# Altium schematic symbol library WR-MPC3.SchLib: 235 symbols (part 3 of 5)
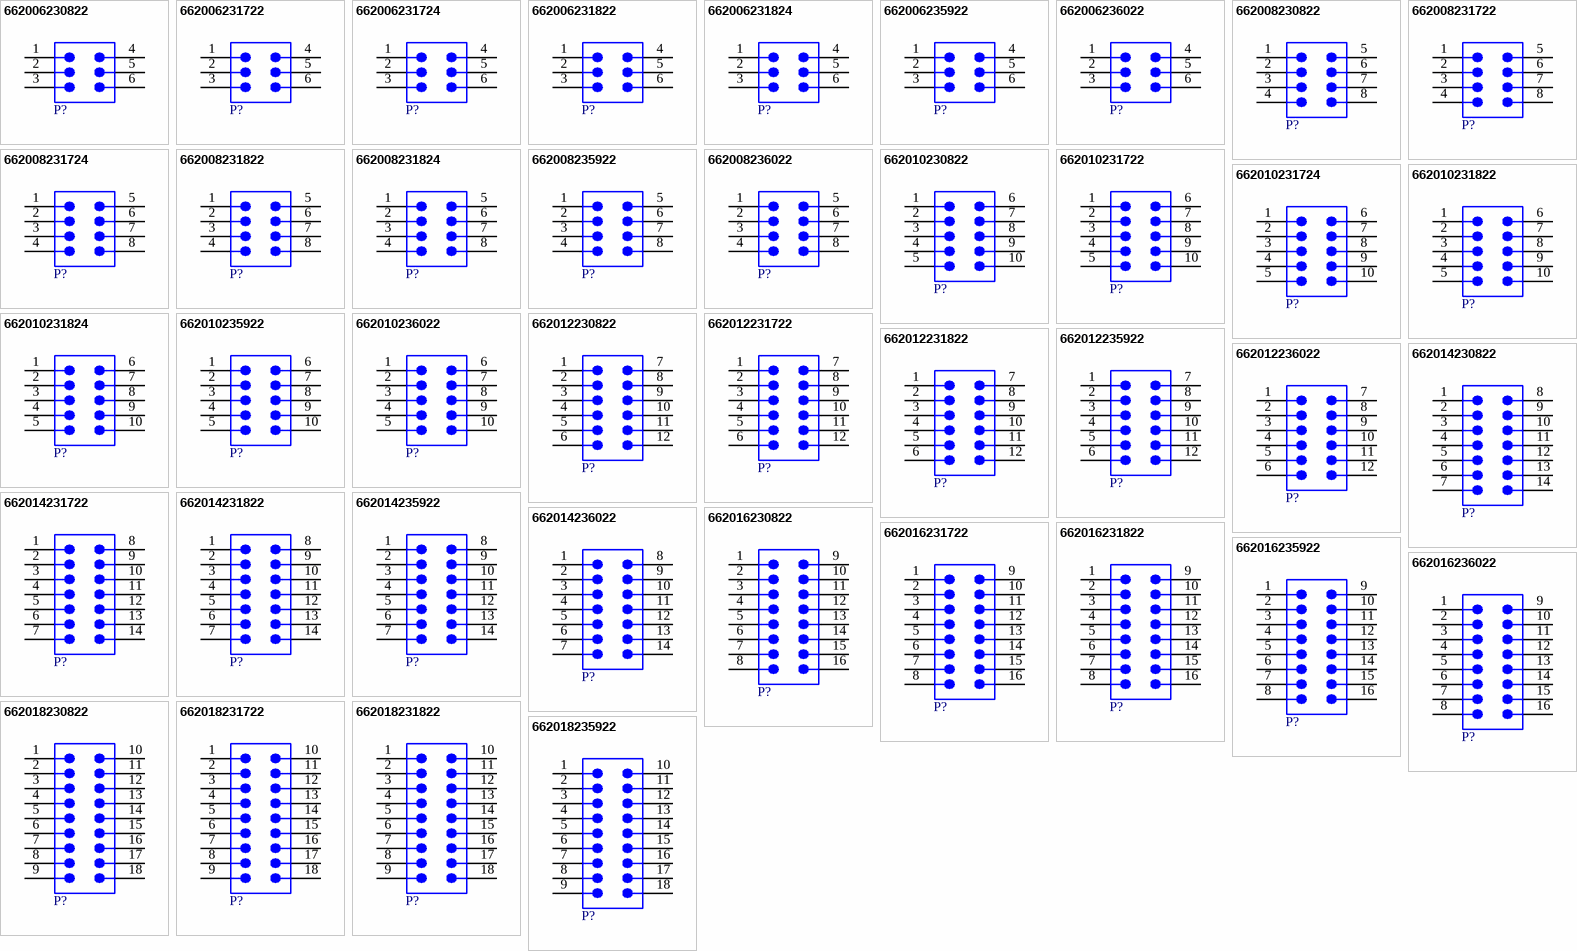
[diagram p7: symbols 662006230822 to 662018235922]

## 662016231722
designator P?  (value not drawn)
WR-MPC3 SMT Male Right Angled Header with SMT Solder Tab, pitch 3mm, 16p; Manufacturer: Wurth Elektronik; Contact Resistance: 10mOhm; Insulation Resistance: >1000MOhm; Rated Current: 5A; Working Voltage: 250V (AC); Manufacturer Part Number: 662016231722; Category: Wire-to-Board Connectors; Match Code: WR-MPC3; ComponentLink1Description: Website Link; ComponentLink1URL: https://www.we-online.com/redexpert/article/662016231722?ad; ComponentLink2Description: Datasheet Link; ComponentLink2URL: https://www.we-online.com/redexpert/spec/662016231722?ad; Mount: Surface Mount; Operating Temperature Max: 105°C; Operating Temperature Min: -40°C; Packaging: Tray; Length: 27.7mm; Width: 9.9mm; Height: 8.76mm; Gender: Male; Number of Pins: 16; Number of Rows: 2; Orientation: Right Angled; Pitch: 3mm
footprint 662016231722
pins: 1, 2, 3, 4, 5, 6, 7, 8, 9, 10, 11, 12, 13, 14, 15, 16

## 662016231822
designator P?  (value not drawn)
WR-MPC3 SMT Male Vertical Header with SMT Solder Tab, pitch 3mm, 16p; Manufacturer: Wurth Elektronik; Contact Resistance: 10mOhm; Insulation Resistance: >1000MOhm; Rated Current: 5A; Working Voltage: 250V (AC); Manufacturer Part Number: 662016231822; Category: Wire-to-Board Connectors; Match Code: WR-MPC3; ComponentLink1Description: Website Link; ComponentLink1URL: https://www.we-online.com/redexpert/article/662016231822?ad; ComponentLink2Description: Datasheet Link; ComponentLink2URL: https://www.we-online.com/redexpert/spec/662016231822?ad; Mount: Surface Mount; Operating Temperature Max: 105°C; Operating Temperature Min: -40°C; Packaging: Tray; Length: 27.7mm; Width: 11.4mm; Height: 9.9mm; Gender: Male; Number of Pins: 16; Number of Rows: 2; Orientation: Vertical; Pitch: 3mm
footprint 662016231822
pins: 1, 2, 3, 4, 5, 6, 7, 8, 9, 10, 11, 12, 13, 14, 15, 16

## 662016235922
designator P?  (value not drawn)
WR-MPC3 SMT Male Vertical Header with THT Retention Clip, pitch 3mm, 16p; Manufacturer: Wurth Elektronik; Contact Resistance: 10mOhm; Insulation Resistance: >1000MOhm; Rated Current: 5A; Working Voltage: 250V (AC); Manufacturer Part Number: 662016235922; Category: Wire-to-Board Connectors; Match Code: WR-MPC3; ComponentLink1Description: Website Link; ComponentLink1URL: https://www.we-online.com/redexpert/article/662016235922?ad; ComponentLink2Description: Datasheet Link; ComponentLink2URL: https://www.we-online.com/redexpert/spec/662016235922?ad; Mount: Surface Mount; Operating Temperature Max: 105°C; Operating Temperature Min: -40°C; Packaging: Tube; Length: 27.7mm; Width: 11.4mm; Height: 9.9mm; Gender: Male; Number of Pins: 16; Number of Rows: 2; Orientation: Vertical; Pitch: 3mm
footprint 662016235922
pins: 1, 2, 3, 4, 5, 6, 7, 8, 9, 10, 11, 12, 13, 14, 15, 16

## 662016236022
designator P?  (value not drawn)
WR-MPC3 SMT Male Right Angled Header with Plastic Pegs, pitch 3mm, 16p; Manufacturer: Wurth Elektronik; Contact Resistance: 10mOhm; Insulation Resistance: >1000MOhm; Rated Current: 5A; Working Voltage: 250V (AC); Manufacturer Part Number: 662016236022; Category: Wire-to-Board Connectors; Match Code: WR-MPC3; ComponentLink1Description: Website Link; ComponentLink1URL: https://www.we-online.com/redexpert/article/662016236022?ad; ComponentLink2Description: Datasheet Link; ComponentLink2URL: https://www.we-online.com/redexpert/spec/662016236022?ad; Mount: Surface Mount; Operating Temperature Max: 105°C; Operating Temperature Min: -40°C; Packaging: Tube; Length: 27.7mm; Width: 9.9mm; Height: 8.76mm; Gender: Male; Number of Pins: 16; Number of Rows: 2; Orientation: Right Angled; Pitch: 3mm
footprint 662016236022
pins: 1, 2, 3, 4, 5, 6, 7, 8, 9, 10, 11, 12, 13, 14, 15, 16

## 662018230822
designator P?  (value not drawn)
WR-MPC3 SMT Male Right Angled Header with THT Retention Clip, pitch 3mm, 18p; Manufacturer: Wurth Elektronik; Contact Resistance: 10mOhm; Insulation Resistance: >1000MOhm; Rated Current: 5A; Working Voltage: 250V (AC); Manufacturer Part Number: 662018230822; Category: Wire-to-Board Connectors; Match Code: WR-MPC3; ComponentLink1Description: Website Link; ComponentLink1URL: https://www.we-online.com/redexpert/article/662018230822?ad; ComponentLink2Description: Datasheet Link; ComponentLink2URL: https://www.we-online.com/redexpert/spec/662018230822?ad; Mount: Surface Mount; Operating Temperature Max: 105°C; Operating Temperature Min: -40°C; Packaging: Tube; Length: 30.7mm; Width: 9.9mm; Height: 8.76mm; Gender: Male; Number of Pins: 18; Number of Rows: 2; Orientation: Right Angled; Pitch: 3mm
footprint 662018230822
pins: 1, 2, 3, 4, 5, 6, 7, 8, 9, 10, 11, 12, 13, 14, 15, 16, 17, 18

## 662018231722
designator P?  (value not drawn)
WR-MPC3 SMT Male Right Angled Header with SMT Solder Tab, pitch 3mm, 18p; Manufacturer: Wurth Elektronik; Contact Resistance: 10mOhm; Insulation Resistance: >1000MOhm; Rated Current: 5A; Working Voltage: 250V (AC); Manufacturer Part Number: 662018231722; Category: Wire-to-Board Connectors; Match Code: WR-MPC3; ComponentLink1Description: Website Link; ComponentLink1URL: https://www.we-online.com/redexpert/article/662018231722?ad; ComponentLink2Description: Datasheet Link; ComponentLink2URL: https://www.we-online.com/redexpert/spec/662018231722?ad; Mount: Surface Mount; Operating Temperature Max: 105°C; Operating Temperature Min: -40°C; Packaging: Tray; Length: 30.7mm; Width: 9.9mm; Height: 8.76mm; Gender: Male; Number of Pins: 18; Number of Rows: 2; Orientation: Right Angled; Pitch: 3mm
footprint 662018231722
pins: 1, 2, 3, 4, 5, 6, 7, 8, 9, 10, 11, 12, 13, 14, 15, 16, 17, 18

## 662018231822
designator P?  (value not drawn)
WR-MPC3 SMT Male Vertical Header with SMT Solder Tab, pitch 3mm, 18p; Manufacturer: Wurth Elektronik; Contact Resistance: 10mOhm; Insulation Resistance: >1000MOhm; Rated Current: 5A; Working Voltage: 250V (AC); Manufacturer Part Number: 662018231822; Category: Wire-to-Board Connectors; Match Code: WR-MPC3; ComponentLink1Description: Website Link; ComponentLink1URL: https://www.we-online.com/redexpert/article/662018231822?ad; ComponentLink2Description: Datasheet Link; ComponentLink2URL: https://www.we-online.com/redexpert/spec/662018231822?ad; Mount: Surface Mount; Operating Temperature Max: 105°C; Operating Temperature Min: -40°C; Packaging: Tray; Length: 30.7mm; Width: 11.4mm; Height: 9.9mm; Gender: Male; Number of Pins: 18; Number of Rows: 2; Orientation: Vertical; Pitch: 3mm
footprint 662018231822
pins: 1, 2, 3, 4, 5, 6, 7, 8, 9, 10, 11, 12, 13, 14, 15, 16, 17, 18

## 662018235922
designator P?  (value not drawn)
WR-MPC3 SMT Male Vertical Header with THT Retention Clip, pitch 3mm, 18p; Manufacturer: Wurth Elektronik; Contact Resistance: 10mOhm; Insulation Resistance: >1000MOhm; Rated Current: 5A; Working Voltage: 250V (AC); Manufacturer Part Number: 662018235922; Category: Wire-to-Board Connectors; Match Code: WR-MPC3; ComponentLink1Description: Website Link; ComponentLink1URL: https://www.we-online.com/redexpert/article/662018235922?ad; ComponentLink2Description: Datasheet Link; ComponentLink2URL: https://www.we-online.com/redexpert/spec/662018235922?ad; Mount: Surface Mount; Operating Temperature Max: 105°C; Operating Temperature Min: -40°C; Packaging: Tube; Length: 30.7mm; Width: 11.4mm; Height: 9.9mm; Gender: Male; Number of Pins: 18; Number of Rows: 2; Orientation: Vertical; Pitch: 3mm
footprint 662018235922
pins: 1, 2, 3, 4, 5, 6, 7, 8, 9, 10, 11, 12, 13, 14, 15, 16, 17, 18

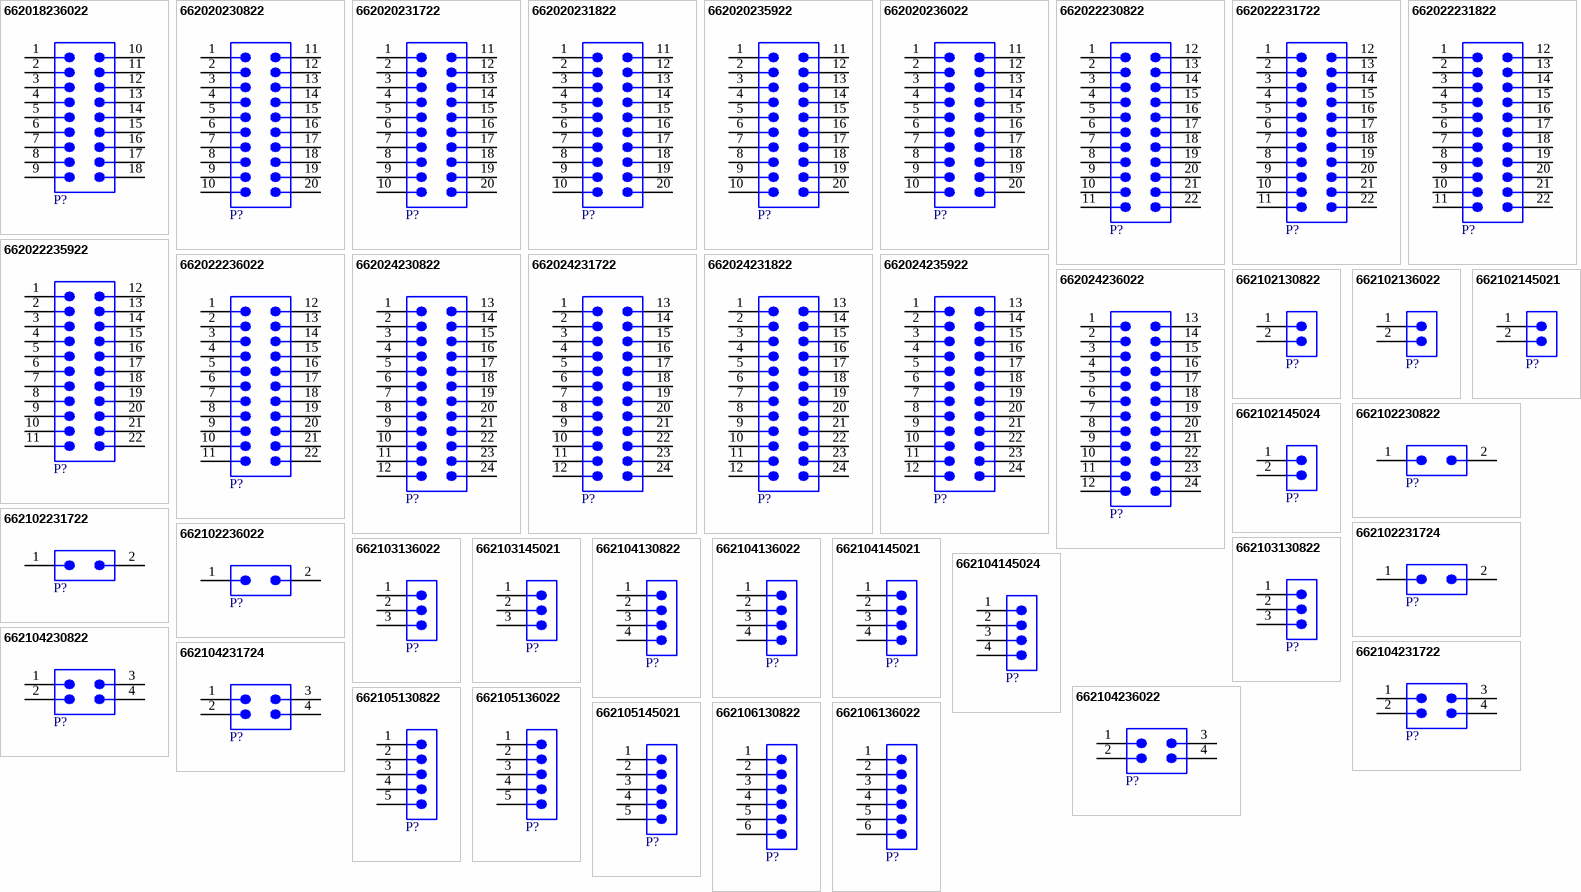
[diagram p3: symbols 662018236022 to 662106136022]

## 662018236022
designator P?  (value not drawn)
WR-MPC3 SMT Male Right Angled Header with Plastic Pegs, pitch 3mm, 18p; Manufacturer: Wurth Elektronik; Contact Resistance: 10mOhm; Insulation Resistance: >1000MOhm; Rated Current: 5A; Working Voltage: 250V (AC); Manufacturer Part Number: 662018236022; Category: Wire-to-Board Connectors; Match Code: WR-MPC3; ComponentLink1Description: Website Link; ComponentLink1URL: https://www.we-online.com/redexpert/article/662018236022?ad; ComponentLink2Description: Datasheet Link; ComponentLink2URL: https://www.we-online.com/redexpert/spec/662018236022?ad; Mount: Surface Mount; Operating Temperature Max: 105°C; Operating Temperature Min: -40°C; Packaging: Tube; Length: 30.7mm; Width: 9.9mm; Height: 8.76mm; Gender: Male; Number of Pins: 18; Number of Rows: 2; Orientation: Right Angled; Pitch: 3mm
footprint 662018236022
pins: 1, 2, 3, 4, 5, 6, 7, 8, 9, 10, 11, 12, 13, 14, 15, 16, 17, 18

## 662020230822
designator P?  (value not drawn)
WR-MPC3 SMT Male Right Angled Header with THT Retention Clip, pitch 3mm, 20p; Manufacturer: Wurth Elektronik; Contact Resistance: 10mOhm; Insulation Resistance: >1000MOhm; Rated Current: 5A; Working Voltage: 250V (AC); Manufacturer Part Number: 662020230822; Category: Wire-to-Board Connectors; Match Code: WR-MPC3; ComponentLink1Description: Website Link; ComponentLink1URL: https://www.we-online.com/redexpert/article/662020230822?ad; ComponentLink2Description: Datasheet Link; ComponentLink2URL: https://www.we-online.com/redexpert/spec/662020230822?ad; Mount: Surface Mount; Operating Temperature Max: 105°C; Operating Temperature Min: -40°C; Packaging: Tube; Length: 33.7mm; Width: 9.9mm; Height: 8.76mm; Gender: Male; Number of Pins: 20; Number of Rows: 2; Orientation: Right Angled; Pitch: 3mm
footprint 662020230822
pins: 1, 2, 3, 4, 5, 6, 7, 8, 9, 10, 11, 12, 13, 14, 15, 16, 17, 18, 19, 20

## 662020231722
designator P?  (value not drawn)
WR-MPC3 SMT Male Right Angled Header with SMT Solder Tab, pitch 3mm, 20p; Manufacturer: Wurth Elektronik; Contact Resistance: 10mOhm; Insulation Resistance: >1000MOhm; Rated Current: 5A; Working Voltage: 250V (AC); Manufacturer Part Number: 662020231722; Category: Wire-to-Board Connectors; Match Code: WR-MPC3; ComponentLink1Description: Website Link; ComponentLink1URL: https://www.we-online.com/redexpert/article/662020231722?ad; ComponentLink2Description: Datasheet Link; ComponentLink2URL: https://www.we-online.com/redexpert/spec/662020231722?ad; Mount: Surface Mount; Operating Temperature Max: 105°C; Operating Temperature Min: -40°C; Packaging: Tray; Length: 33.7mm; Width: 9.9mm; Height: 8.76mm; Gender: Male; Number of Pins: 20; Number of Rows: 2; Orientation: Right Angled; Pitch: 3mm
footprint 662020231722
pins: 1, 2, 3, 4, 5, 6, 7, 8, 9, 10, 11, 12, 13, 14, 15, 16, 17, 18, 19, 20

## 662020231822
designator P?  (value not drawn)
WR-MPC3 SMT Male Vertical Header with SMT Solder Tab, pitch 3mm, 20p; Manufacturer: Wurth Elektronik; Contact Resistance: 10mOhm; Insulation Resistance: >1000MOhm; Rated Current: 5A; Working Voltage: 250V (AC); Manufacturer Part Number: 662020231822; Category: Wire-to-Board Connectors; Match Code: WR-MPC3; ComponentLink1Description: Website Link; ComponentLink1URL: https://www.we-online.com/redexpert/article/662020231822?ad; ComponentLink2Description: Datasheet Link; ComponentLink2URL: https://www.we-online.com/redexpert/spec/662020231822?ad; Mount: Surface Mount; Operating Temperature Max: 105°C; Operating Temperature Min: -40°C; Packaging: Tray; Length: 33.7mm; Width: 11.4mm; Height: 9.9mm; Gender: Male; Number of Pins: 20; Number of Rows: 2; Orientation: Vertical; Pitch: 3mm
footprint 662020231822
pins: 1, 2, 3, 4, 5, 6, 7, 8, 9, 10, 11, 12, 13, 14, 15, 16, 17, 18, 19, 20

## 662020235922
designator P?  (value not drawn)
WR-MPC3 SMT Male Vertical Header with THT Retention Clip, pitch 3mm, 20p; Manufacturer: Wurth Elektronik; Contact Resistance: 10mOhm; Insulation Resistance: >1000MOhm; Rated Current: 5A; Working Voltage: 250V (AC); Manufacturer Part Number: 662020235922; Category: Wire-to-Board Connectors; Match Code: WR-MPC3; ComponentLink1Description: Website Link; ComponentLink1URL: https://www.we-online.com/redexpert/article/662020235922?ad; ComponentLink2Description: Datasheet Link; ComponentLink2URL: https://www.we-online.com/redexpert/spec/662020235922?ad; Mount: Surface Mount; Operating Temperature Max: 105°C; Operating Temperature Min: -40°C; Packaging: Tube; Length: 33.7mm; Width: 11.4mm; Height: 9.9mm; Gender: Male; Number of Pins: 20; Number of Rows: 2; Orientation: Vertical; Pitch: 3mm
footprint 662020235922
pins: 1, 2, 3, 4, 5, 6, 7, 8, 9, 10, 11, 12, 13, 14, 15, 16, 17, 18, 19, 20

## 662020236022
designator P?  (value not drawn)
WR-MPC3 SMT Male Right Angled Header with Plastic Pegs, pitch 3mm, 20p; Manufacturer: Wurth Elektronik; Contact Resistance: 10mOhm; Insulation Resistance: >1000MOhm; Rated Current: 5A; Working Voltage: 250V (AC); Manufacturer Part Number: 662020236022; Category: Wire-to-Board Connectors; Match Code: WR-MPC3; ComponentLink1Description: Website Link; ComponentLink1URL: https://www.we-online.com/redexpert/article/662020236022?ad; ComponentLink2Description: Datasheet Link; ComponentLink2URL: https://www.we-online.com/redexpert/spec/662020236022?ad; Mount: Surface Mount; Operating Temperature Max: 105°C; Operating Temperature Min: -40°C; Packaging: Tube; Length: 33.7mm; Width: 9.9mm; Height: 8.76mm; Gender: Male; Number of Pins: 20; Number of Rows: 2; Orientation: Right Angled; Pitch: 3mm
footprint 662020236022
pins: 1, 2, 3, 4, 5, 6, 7, 8, 9, 10, 11, 12, 13, 14, 15, 16, 17, 18, 19, 20

## 662022230822
designator P?  (value not drawn)
WR-MPC3 SMT Male Right Angled Header with THT Retention Clip, pitch 3mm, 22p; Manufacturer: Wurth Elektronik; Contact Resistance: 10mOhm; Insulation Resistance: >1000MOhm; Rated Current: 5A; Working Voltage: 250V (AC); Manufacturer Part Number: 662022230822; Category: Wire-to-Board Connectors; Match Code: WR-MPC3; ComponentLink1Description: Website Link; ComponentLink1URL: https://www.we-online.com/redexpert/article/662022230822?ad; ComponentLink2Description: Datasheet Link; ComponentLink2URL: https://www.we-online.com/redexpert/spec/662022230822?ad; Mount: Surface Mount; Operating Temperature Max: 105°C; Operating Temperature Min: -40°C; Packaging: Tube; Length: 36.7mm; Width: 9.9mm; Height: 8.76mm; Gender: Male; Number of Pins: 22; Number of Rows: 2; Orientation: Right Angled; Pitch: 3mm
footprint 662022230822
pins: 1, 2, 3, 4, 5, 6, 7, 8, 9, 10, 11, 12, 13, 14, 15, 16, 17, 18, 19, 20, 21, 22

## 662022231722
designator P?  (value not drawn)
WR-MPC3 SMT Male Right Angled Header with SMT Solder Tab, pitch 3mm, 22p; Manufacturer: Wurth Elektronik; Contact Resistance: 10mOhm; Insulation Resistance: >1000MOhm; Rated Current: 5A; Working Voltage: 250V (AC); Manufacturer Part Number: 662022231722; Category: Wire-to-Board Connectors; Match Code: WR-MPC3; ComponentLink1Description: Website Link; ComponentLink1URL: https://www.we-online.com/redexpert/article/662022231722?ad; ComponentLink2Description: Datasheet Link; ComponentLink2URL: https://www.we-online.com/redexpert/spec/662022231722?ad; Mount: Surface Mount; Operating Temperature Max: 105°C; Operating Temperature Min: -40°C; Packaging: Tray; Length: 36.7mm; Width: 9.9mm; Height: 8.76mm; Gender: Male; Number of Pins: 22; Number of Rows: 2; Orientation: Right Angled; Pitch: 3mm
footprint 662022231722
pins: 1, 2, 3, 4, 5, 6, 7, 8, 9, 10, 11, 12, 13, 14, 15, 16, 17, 18, 19, 20, 21, 22

## 662022231822
designator P?  (value not drawn)
WR-MPC3 SMT Male Vertical Header with SMT Solder Tab, pitch 3mm, 22p; Manufacturer: Wurth Elektronik; Contact Resistance: 10mOhm; Insulation Resistance: >1000MOhm; Rated Current: 5A; Working Voltage: 250V (AC); Manufacturer Part Number: 662022231822; Category: Wire-to-Board Connectors; Match Code: WR-MPC3; ComponentLink1Description: Website Link; ComponentLink1URL: https://www.we-online.com/redexpert/article/662022231822?ad; ComponentLink2Description: Datasheet Link; ComponentLink2URL: https://www.we-online.com/redexpert/spec/662022231822?ad; Mount: Surface Mount; Operating Temperature Max: 105°C; Operating Temperature Min: -40°C; Packaging: Tray; Length: 36.7mm; Width: 11.4mm; Height: 9.9mm; Gender: Male; Number of Pins: 22; Number of Rows: 2; Orientation: Vertical; Pitch: 3mm
footprint 662022231822
pins: 1, 2, 3, 4, 5, 6, 7, 8, 9, 10, 11, 12, 13, 14, 15, 16, 17, 18, 19, 20, 21, 22

## 662022235922
designator P?  (value not drawn)
WR-MPC3 SMT Male Vertical Header with THT Retention Clip, pitch 3mm, 22p; Manufacturer: Wurth Elektronik; Contact Resistance: 10mOhm; Insulation Resistance: >1000MOhm; Rated Current: 5A; Working Voltage: 250V (AC); Manufacturer Part Number: 662022235922; Category: Wire-to-Board Connectors; Match Code: WR-MPC3; ComponentLink1Description: Website Link; ComponentLink1URL: https://www.we-online.com/redexpert/article/662022235922?ad; ComponentLink2Description: Datasheet Link; ComponentLink2URL: https://www.we-online.com/redexpert/spec/662022235922?ad; Mount: Surface Mount; Operating Temperature Max: 105°C; Operating Temperature Min: -40°C; Packaging: Tube; Length: 36.7mm; Width: 11.4mm; Height: 9.9mm; Gender: Male; Number of Pins: 22; Number of Rows: 2; Orientation: Vertical; Pitch: 3mm
footprint 662022235922
pins: 1, 2, 3, 4, 5, 6, 7, 8, 9, 10, 11, 12, 13, 14, 15, 16, 17, 18, 19, 20, 21, 22

## 662022236022
designator P?  (value not drawn)
WR-MPC3 SMT Male Right Angled Header with Plastic Pegs, pitch 3mm, 22p; Manufacturer: Wurth Elektronik; Contact Resistance: 10mOhm; Insulation Resistance: >1000MOhm; Rated Current: 5A; Working Voltage: 250V (AC); Manufacturer Part Number: 662022236022; Category: Wire-to-Board Connectors; Match Code: WR-MPC3; ComponentLink1Description: Website Link; ComponentLink1URL: https://www.we-online.com/redexpert/article/662022236022?ad; ComponentLink2Description: Datasheet Link; ComponentLink2URL: https://www.we-online.com/redexpert/spec/662022236022?ad; Mount: Surface Mount; Operating Temperature Max: 105°C; Operating Temperature Min: -40°C; Packaging: Tube; Length: 36.7mm; Width: 9.9mm; Height: 8.76mm; Gender: Male; Number of Pins: 22; Number of Rows: 2; Orientation: Right Angled; Pitch: 3mm
footprint 662022236022
pins: 1, 2, 3, 4, 5, 6, 7, 8, 9, 10, 11, 12, 13, 14, 15, 16, 17, 18, 19, 20, 21, 22

## 662024230822
designator P?  (value not drawn)
WR-MPC3 SMT Male Right Angled Header with THT Retention Clip, pitch 3mm, 24p; Manufacturer: Wurth Elektronik; Contact Resistance: 10mOhm; Insulation Resistance: >1000MOhm; Rated Current: 5A; Working Voltage: 250V (AC); Manufacturer Part Number: 662024230822; Category: Wire-to-Board Connectors; Match Code: WR-MPC3; ComponentLink1Description: Website Link; ComponentLink1URL: https://www.we-online.com/redexpert/article/662024230822?ad; ComponentLink2Description: Datasheet Link; ComponentLink2URL: https://www.we-online.com/redexpert/spec/662024230822?ad; Mount: Surface Mount; Operating Temperature Max: 105°C; Operating Temperature Min: -40°C; Packaging: Tube; Length: 39.7mm; Width: 9.9mm; Height: 8.76mm; Gender: Male; Number of Pins: 24; Number of Rows: 2; Orientation: Right Angled; Pitch: 3mm
footprint 662024230822
pins: 1, 2, 3, 4, 5, 6, 7, 8, 9, 10, 11, 12, 13, 14, 15, 16, 17, 18, 19, 20, 21, 22, 23, 24

## 662024231722
designator P?  (value not drawn)
WR-MPC3 SMT Male Right Angled Header with SMT Solder Tab, pitch 3mm, 24p; Manufacturer: Wurth Elektronik; Contact Resistance: 10mOhm; Insulation Resistance: >1000MOhm; Rated Current: 5A; Working Voltage: 250V (AC); Manufacturer Part Number: 662024231722; Category: Wire-to-Board Connectors; Match Code: WR-MPC3; ComponentLink1Description: Website Link; ComponentLink1URL: https://www.we-online.com/redexpert/article/662024231722?ad; ComponentLink2Description: Datasheet Link; ComponentLink2URL: https://www.we-online.com/redexpert/spec/662024231722?ad; Mount: Surface Mount; Operating Temperature Max: 105°C; Operating Temperature Min: -40°C; Packaging: Tray; Length: 39.7mm; Width: 9.9mm; Height: 8.76mm; Gender: Male; Number of Pins: 24; Number of Rows: 2; Orientation: Right Angled; Pitch: 3mm
footprint 662024231722
pins: 1, 2, 3, 4, 5, 6, 7, 8, 9, 10, 11, 12, 13, 14, 15, 16, 17, 18, 19, 20, 21, 22, 23, 24

## 662024231822
designator P?  (value not drawn)
WR-MPC3 SMT Male Vertical Header with SMT Solder Tab, pitch 3mm, 24p; Manufacturer: Wurth Elektronik; Contact Resistance: 10mOhm; Insulation Resistance: >1000MOhm; Rated Current: 5A; Working Voltage: 250V (AC); Manufacturer Part Number: 662024231822; Category: Wire-to-Board Connectors; Match Code: WR-MPC3; ComponentLink1Description: Website Link; ComponentLink1URL: https://www.we-online.com/redexpert/article/662024231822?ad; ComponentLink2Description: Datasheet Link; ComponentLink2URL: https://www.we-online.com/redexpert/spec/662024231822?ad; Mount: Surface Mount; Operating Temperature Max: 105°C; Operating Temperature Min: -40°C; Packaging: Tray; Length: 39.7mm; Width: 11.4mm; Height: 9.9mm; Gender: Male; Number of Pins: 24; Number of Rows: 2; Orientation: Vertical; Pitch: 3mm
footprint 662024231822
pins: 1, 2, 3, 4, 5, 6, 7, 8, 9, 10, 11, 12, 13, 14, 15, 16, 17, 18, 19, 20, 21, 22, 23, 24

## 662024235922
designator P?  (value not drawn)
WR-MPC3 SMT Male Vertical Header with THT Retention Clip, pitch 3mm, 24p; Manufacturer: Wurth Elektronik; Contact Resistance: 10mOhm; Insulation Resistance: >1000MOhm; Rated Current: 5A; Working Voltage: 250V (AC); Manufacturer Part Number: 662024235922; Category: Wire-to-Board Connectors; Match Code: WR-MPC3; ComponentLink1Description: Website Link; ComponentLink1URL: https://www.we-online.com/redexpert/article/662024235922?ad; ComponentLink2Description: Datasheet Link; ComponentLink2URL: https://www.we-online.com/redexpert/spec/662024235922?ad; Mount: Surface Mount; Operating Temperature Max: 105°C; Operating Temperature Min: -40°C; Packaging: Tube; Length: 39.7mm; Width: 11.4mm; Height: 9.9mm; Gender: Male; Number of Pins: 24; Number of Rows: 2; Orientation: Vertical; Pitch: 3mm
footprint 662024235922
pins: 1, 2, 3, 4, 5, 6, 7, 8, 9, 10, 11, 12, 13, 14, 15, 16, 17, 18, 19, 20, 21, 22, 23, 24

## 662024236022
designator P?  (value not drawn)
WR-MPC3 SMT Male Right Angled Header with Plastic Pegs, pitch 3mm, 24p; Manufacturer: Wurth Elektronik; Contact Resistance: 10mOhm; Insulation Resistance: >1000MOhm; Rated Current: 5A; Working Voltage: 250V (AC); Manufacturer Part Number: 662024236022; Category: Wire-to-Board Connectors; Match Code: WR-MPC3; ComponentLink1Description: Website Link; ComponentLink1URL: https://www.we-online.com/redexpert/article/662024236022?ad; ComponentLink2Description: Datasheet Link; ComponentLink2URL: https://www.we-online.com/redexpert/spec/662024236022?ad; Mount: Surface Mount; Operating Temperature Max: 105°C; Operating Temperature Min: -40°C; Packaging: Tube; Length: 39.7mm; Width: 9.9mm; Height: 8.76mm; Gender: Male; Number of Pins: 24; Number of Rows: 2; Orientation: Right Angled; Pitch: 3mm
footprint 662024236022
pins: 1, 2, 3, 4, 5, 6, 7, 8, 9, 10, 11, 12, 13, 14, 15, 16, 17, 18, 19, 20, 21, 22, 23, 24

## 662102130822
designator P?  (value not drawn)
WR-MPC3 SMT Male Right Angled Header with THT Retention Clip, pitch 3mm, 2p; Manufacturer: Wurth Elektronik; Contact Resistance: 10mOhm; Insulation Resistance: >1000MOhm; Rated Current: 5A; Working Voltage: 250V (AC); Manufacturer Part Number: 662102130822; Category: Wire-to-Board Connectors; Match Code: WR-MPC3; ComponentLink1Description: Website Link; ComponentLink1URL: https://www.we-online.com/redexpert/article/662102130822?ad; ComponentLink2Description: Datasheet Link; ComponentLink2URL: https://www.we-online.com/redexpert/spec/662102130822?ad; Mount: Surface Mount; Operating Temperature Max: 105°C; Operating Temperature Min: -40°C; Packaging: Tape and Reel; Length: 9.65mm; Width: 11.35mm; Height: 5.57mm; Gender: Male; Number of Pins: 2; Number of Rows: 1; Orientation: Right Angled; Pitch: 3mm
footprint 662102130822
pins: 1, 2

## 662102136022
designator P?  (value not drawn)
WR-MPC3 SMT Male Right Angled Header with Snap-In Plastic Pegs, pitch 3mm, 2p; Manufacturer: Wurth Elektronik; Contact Resistance: 10mOhm; Insulation Resistance: >1000MOhm; Rated Current: 5A; Working Voltage: 250V (AC); Manufacturer Part Number: 662102136022; Category: Wire-to-Board Connectors; Match Code: WR-MPC3; ComponentLink1Description: Website Link; ComponentLink1URL: https://www.we-online.com/redexpert/article/662102136022?ad; ComponentLink2Description: Datasheet Link; ComponentLink2URL: https://www.we-online.com/redexpert/spec/662102136022?ad; Mount: Surface Mount; Operating Temperature Max: 105°C; Operating Temperature Min: -40°C; Packaging: Tape and Reel; Length: 9.65mm; Width: 11.35mm; Height: 5.57mm; Gender: Male; Number of Pins: 2; Number of Rows: 1; Orientation: Right Angled; Pitch: 3mm
footprint 662102136022
pins: 1, 2

## 662102145021
designator P?  (value not drawn)
WR-MPC3 SMT Male Right Angled Header with SMT Solder Tabs, pitch 3mm, 2p; Manufacturer: Wurth Elektronik; Contact Resistance: 10mOhm; Insulation Resistance: >1000MOhm; Rated Current: 5A; Working Voltage: 250V (AC); Manufacturer Part Number: 662102145021; Category: Wire-to-Board Connectors; Match Code: WR-MPC3; ComponentLink1Description: Website Link; ComponentLink1URL: https://www.we-online.com/redexpert/article/662102145021?ad; ComponentLink2Description: Datasheet Link; ComponentLink2URL: https://www.we-online.com/redexpert/spec/662102145021?ad; Mount: Surface Mount; Operating Temperature Max: 105°C; Operating Temperature Min: -40°C; Packaging: Tape and Reel; Length: 9.65mm; Width: 11.35mm; Height: 5.57mm; Gender: Male; Number of Pins: 2; Number of Rows: 1; Orientation: Right Angled; Pitch: 3mm
footprint 662102145021
pins: 1, 2

## 662102145024
designator P?  (value not drawn)
WR-MPC3 SMT Male Header Single Row Right Angled with SMT Solder Tabs (Selective Gold), pitch 3mm, 2p; Manufacturer: Wurth Elektronik; Contact Resistance: 10mOhm; Insulation Resistance: >1000MOhm; Rated Current: 5A; Working Voltage: 250V (AC); Manufacturer Part Number: 662102145024; Category: Wire-to-Board Connectors; Match Code: WR-MPC3; ComponentLink1Description: Website Link; ComponentLink1URL: https://www.we-online.com/redexpert/article/662102145024?ad; ComponentLink2Description: Datasheet Link; ComponentLink2URL: https://www.we-online.com/redexpert/spec/662102145024?ad; Mount: Surface Mount; Operating Temperature Max: 105°C; Operating Temperature Min: -40°C; Packaging: Tape and Reel; Gender: Male; Number of Pins: 2; Number of Rows: 1; Orientation: Right Angled; Pitch: 3mm
footprint 662102145024
pins: 1, 2

## 662102230822
designator P?  (value not drawn)
WR-MPC3 SMT Male Right Angled Header with THT Retention Clip, pitch 3mm, 2p; Manufacturer: Wurth Elektronik; Contact Resistance: 10mOhm; Insulation Resistance: >1000MOhm; Rated Current: 5A; Working Voltage: 250V (AC); Manufacturer Part Number: 662102230822; Category: Wire-to-Board Connectors; Match Code: WR-MPC3; ComponentLink1Description: Website Link; ComponentLink1URL: https://www.we-online.com/redexpert/article/662102230822?ad; ComponentLink2Description: Datasheet Link; ComponentLink2URL: https://www.we-online.com/redexpert/spec/662102230822?ad; Mount: Surface Mount; Operating Temperature Max: 105°C; Operating Temperature Min: -40°C; Packaging: Tape and Reel; Length: 6.7mm; Width: 15.9mm; Height: 8.76mm; Gender: Male; Number of Pins: 2; Number of Rows: 2; Orientation: Right Angled; Pitch: 3mm
footprint 662102230822
pins: 1, 2

## 662102231722
designator P?  (value not drawn)
WR-MPC3 SMT Male Right Angled Header with SMT Solder Tab, pitch 3mm, 2p; Manufacturer: Wurth Elektronik; Contact Resistance: 10mOhm; Insulation Resistance: >1000MOhm; Rated Current: 5A; Working Voltage: 250V (AC); Manufacturer Part Number: 662102231722; Category: Wire-to-Board Connectors; Match Code: WR-MPC3; ComponentLink1Description: Website Link; ComponentLink1URL: https://www.we-online.com/redexpert/article/662102231722?ad; ComponentLink2Description: Datasheet Link; ComponentLink2URL: https://www.we-online.com/redexpert/spec/662102231722?ad; Mount: Surface Mount; Operating Temperature Max: 105°C; Operating Temperature Min: -40°C; Packaging: Tape and Reel; Length: 6.7mm; Width: 9.9mm; Height: 8.76mm; Gender: Male; Number of Pins: 2; Number of Rows: 2; Orientation: Right Angled; Pitch: 3mm
footprint 662102231722
pins: 1, 2

## 662102231724
designator P?  (value not drawn)
WR-MPC3 SMT Male Header Dual Row Right Angled with SMT Solder Tabs (Selective Gold), pitch 3mm, 2p; Manufacturer: Wurth Elektronik; Contact Resistance: 10mOhm; Insulation Resistance: >1000MOhm; Rated Current: 5A; Working Voltage: 250V (AC); Manufacturer Part Number: 662102231724; Category: Wire-to-Board Connectors; Match Code: WR-MPC3; ComponentLink1Description: Website Link; ComponentLink1URL: https://www.we-online.com/redexpert/article/662102231724?ad; ComponentLink2Description: Datasheet Link; ComponentLink2URL: https://www.we-online.com/redexpert/spec/662102231724?ad; Mount: Surface Mount; Operating Temperature Max: 105°C; Operating Temperature Min: -40°C; Packaging: Tape and Reel; Gender: Male; Number of Pins: 2; Number of Rows: 2; Orientation: Right Angled; Pitch: 3mm
footprint 662102231724
pins: 1, 2

## 662102236022
designator P?  (value not drawn)
WR-MPC3 SMT Male Right Angled Header with Plastic Pegs, pitch 3mm, 2p; Manufacturer: Wurth Elektronik; Contact Resistance: 10mOhm; Insulation Resistance: >1000MOhm; Rated Current: 5A; Working Voltage: 250V (AC); Manufacturer Part Number: 662102236022; Category: Wire-to-Board Connectors; Match Code: WR-MPC3; ComponentLink1Description: Website Link; ComponentLink1URL: https://www.we-online.com/redexpert/article/662102236022?ad; ComponentLink2Description: Datasheet Link; ComponentLink2URL: https://www.we-online.com/redexpert/spec/662102236022?ad; Mount: Surface Mount; Operating Temperature Max: 105°C; Operating Temperature Min: -40°C; Packaging: Tape and Reel; Length: 6.7mm; Width: 9.9mm; Height: 8.76mm; Gender: Male; Number of Pins: 2; Number of Rows: 2; Orientation: Right Angled; Pitch: 3mm
footprint 662102236022
pins: 1, 2

## 662103130822
designator P?  (value not drawn)
WR-MPC3 SMT Male Right Angled Header with THT Retention Clip, pitch 3mm, 3p; Manufacturer: Wurth Elektronik; Contact Resistance: 10mOhm; Insulation Resistance: >1000MOhm; Rated Current: 5A; Working Voltage: 250V (AC); Manufacturer Part Number: 662103130822; Category: Wire-to-Board Connectors; Match Code: WR-MPC3; ComponentLink1Description: Website Link; ComponentLink1URL: https://www.we-online.com/redexpert/article/662103130822?ad; ComponentLink2Description: Datasheet Link; ComponentLink2URL: https://www.we-online.com/redexpert/spec/662103130822?ad; Mount: Surface Mount; Operating Temperature Max: 105°C; Operating Temperature Min: -40°C; Packaging: Tape and Reel; Length: 12.65mm; Width: 11.35mm; Height: 5.57mm; Gender: Male; Number of Pins: 3; Number of Rows: 1; Orientation: Right Angled; Pitch: 3mm
footprint 662103130822
pins: 1, 2, 3

## 662103136022
designator P?  (value not drawn)
WR-MPC3 SMT Male Right Angled Header with Snap-In Plastic Pegs, pitch 3mm, 3p; Manufacturer: Wurth Elektronik; Contact Resistance: 10mOhm; Insulation Resistance: >1000MOhm; Rated Current: 5A; Working Voltage: 250V (AC); Manufacturer Part Number: 662103136022; Category: Wire-to-Board Connectors; Match Code: WR-MPC3; ComponentLink1Description: Website Link; ComponentLink1URL: https://www.we-online.com/redexpert/article/662103136022?ad; ComponentLink2Description: Datasheet Link; ComponentLink2URL: https://www.we-online.com/redexpert/spec/662103136022?ad; Mount: Surface Mount; Operating Temperature Max: 105°C; Operating Temperature Min: -40°C; Packaging: Tape and Reel; Length: 12.65mm; Width: 11.35mm; Height: 5.57mm; Gender: Male; Number of Pins: 3; Number of Rows: 1; Orientation: Right Angled; Pitch: 3mm
footprint 662103136022
pins: 1, 2, 3

## 662103145021
designator P?  (value not drawn)
WR-MPC3 SMT Male Right Angled Header with SMT Solder Tabs, pitch 3mm, 3p; Manufacturer: Wurth Elektronik; Contact Resistance: 10mOhm; Insulation Resistance: >1000MOhm; Rated Current: 5A; Working Voltage: 250V (AC); Manufacturer Part Number: 662103145021; Category: Wire-to-Board Connectors; Match Code: WR-MPC3; ComponentLink1Description: Website Link; ComponentLink1URL: https://www.we-online.com/redexpert/article/662103145021?ad; ComponentLink2Description: Datasheet Link; ComponentLink2URL: https://www.we-online.com/redexpert/spec/662103145021?ad; Mount: Surface Mount; Operating Temperature Max: 105°C; Operating Temperature Min: -40°C; Packaging: Tape and Reel; Length: 12.65mm; Width: 11.35mm; Height: 5.57mm; Gender: Male; Number of Pins: 3; Number of Rows: 1; Orientation: Right Angled; Pitch: 3mm
footprint 662103145021
pins: 1, 2, 3

## 662104130822
designator P?  (value not drawn)
WR-MPC3 SMT Male Right Angled Header with THT Retention Clip, pitch 3mm, 4p; Manufacturer: Wurth Elektronik; Contact Resistance: 10mOhm; Insulation Resistance: >1000MOhm; Rated Current: 5A; Working Voltage: 250V (AC); Manufacturer Part Number: 662104130822; Category: Wire-to-Board Connectors; Match Code: WR-MPC3; ComponentLink1Description: Website Link; ComponentLink1URL: https://www.we-online.com/redexpert/article/662104130822?ad; ComponentLink2Description: Datasheet Link; ComponentLink2URL: https://www.we-online.com/redexpert/spec/662104130822?ad; Mount: Surface Mount; Operating Temperature Max: 105°C; Operating Temperature Min: -40°C; Packaging: Tape and Reel; Length: 15.65mm; Width: 11.35mm; Height: 5.57mm; Gender: Male; Number of Pins: 4; Number of Rows: 1; Orientation: Right Angled; Pitch: 3mm
footprint 662104130822
pins: 1, 2, 3, 4

## 662104136022
designator P?  (value not drawn)
WR-MPC3 SMT Male Right Angled Header with Snap-In Plastic Pegs, pitch 3mm, 4p; Manufacturer: Wurth Elektronik; Contact Resistance: 10mOhm; Insulation Resistance: >1000MOhm; Rated Current: 5A; Working Voltage: 250V (AC); Manufacturer Part Number: 662104136022; Category: Wire-to-Board Connectors; Match Code: WR-MPC3; ComponentLink1Description: Website Link; ComponentLink1URL: https://www.we-online.com/redexpert/article/662104136022?ad; ComponentLink2Description: Datasheet Link; ComponentLink2URL: https://www.we-online.com/redexpert/spec/662104136022?ad; Mount: Surface Mount; Operating Temperature Max: 105°C; Operating Temperature Min: -40°C; Packaging: Tape and Reel; Length: 15.65mm; Width: 11.35mm; Height: 5.57mm; Gender: Male; Number of Pins: 4; Number of Rows: 1; Orientation: Right Angled; Pitch: 3mm
footprint 662104136022
pins: 1, 2, 3, 4

## 662104145021
designator P?  (value not drawn)
WR-MPC3 SMT Male Right Angled Header with SMT Solder Tabs, pitch 3mm, 4p; Manufacturer: Wurth Elektronik; Contact Resistance: 10mOhm; Insulation Resistance: >1000MOhm; Rated Current: 5A; Working Voltage: 250V (AC); Manufacturer Part Number: 662104145021; Category: Wire-to-Board Connectors; Match Code: WR-MPC3; ComponentLink1Description: Website Link; ComponentLink1URL: https://www.we-online.com/redexpert/article/662104145021?ad; ComponentLink2Description: Datasheet Link; ComponentLink2URL: https://www.we-online.com/redexpert/spec/662104145021?ad; Mount: Surface Mount; Operating Temperature Max: 105°C; Operating Temperature Min: -40°C; Packaging: Tape and Reel; Length: 15.65mm; Width: 11.35mm; Height: 5.57mm; Gender: Male; Number of Pins: 4; Number of Rows: 1; Orientation: Right Angled; Pitch: 3mm
footprint 662104145021
pins: 1, 2, 3, 4

## 662104145024
designator P?  (value not drawn)
WR-MPC3 SMT Male Header Single Row Right Angled with SMT Solder Tabs (Selective Gold), pitch 3mm, 4p; Manufacturer: Wurth Elektronik; Contact Resistance: 10mOhm; Insulation Resistance: >1000MOhm; Rated Current: 5A; Working Voltage: 250V (AC); Manufacturer Part Number: 662104145024; Category: Wire-to-Board Connectors; Match Code: WR-MPC3; ComponentLink1Description: Website Link; ComponentLink1URL: https://www.we-online.com/redexpert/article/662104145024?ad; ComponentLink2Description: Datasheet Link; ComponentLink2URL: https://www.we-online.com/redexpert/spec/662104145024?ad; Mount: Surface Mount; Operating Temperature Max: 105°C; Operating Temperature Min: -40°C; Packaging: Tape and Reel; Gender: Male; Number of Pins: 4; Number of Rows: 1; Orientation: Right Angled; Pitch: 3mm
footprint 662104145024
pins: 1, 2, 3, 4

## 662104230822
designator P?  (value not drawn)
WR-MPC3 SMT Male Right Angled Header with THT Retention Clip, pitch 3mm, 4p; Manufacturer: Wurth Elektronik; Contact Resistance: 10mOhm; Insulation Resistance: >1000MOhm; Rated Current: 5A; Working Voltage: 250V (AC); Manufacturer Part Number: 662104230822; Category: Wire-to-Board Connectors; Match Code: WR-MPC3; ComponentLink1Description: Website Link; ComponentLink1URL: https://www.we-online.com/redexpert/article/662104230822?ad; ComponentLink2Description: Datasheet Link; ComponentLink2URL: https://www.we-online.com/redexpert/spec/662104230822?ad; Mount: Surface Mount; Operating Temperature Max: 105°C; Operating Temperature Min: -40°C; Packaging: Tape and Reel; Length: 9.7mm; Width: 15.9mm; Height: 8.76mm; Gender: Male; Number of Pins: 4; Number of Rows: 2; Orientation: Right Angled; Pitch: 3mm
footprint 662104230822
pins: 1, 2, 3, 4

## 662104231722
designator P?  (value not drawn)
WR-MPC3 SMT Male Right Angled Header with SMT Solder Tab, pitch 3mm, 4p; Manufacturer: Wurth Elektronik; Contact Resistance: 10mOhm; Insulation Resistance: >1000MOhm; Rated Current: 5A; Working Voltage: 250V (AC); Manufacturer Part Number: 662104231722; Category: Wire-to-Board Connectors; Match Code: WR-MPC3; ComponentLink1Description: Website Link; ComponentLink1URL: https://www.we-online.com/redexpert/article/662104231722?ad; ComponentLink2Description: Datasheet Link; ComponentLink2URL: https://www.we-online.com/redexpert/spec/662104231722?ad; Mount: Surface Mount; Operating Temperature Max: 105°C; Operating Temperature Min: -40°C; Packaging: Tape and Reel; Length: 9.7mm; Width: 9.9mm; Height: 8.76mm; Gender: Male; Number of Pins: 4; Number of Rows: 2; Orientation: Right Angled; Pitch: 3mm
footprint 662104231722
pins: 1, 2, 3, 4

## 662104231724
designator P?  (value not drawn)
WR-MPC3 SMT Male Header Dual Row Right Angled with SMT Solder Tabs (Selective Gold), pitch 3mm, 4p; Manufacturer: Wurth Elektronik; Contact Resistance: 10mOhm; Insulation Resistance: >1000MOhm; Rated Current: 5A; Working Voltage: 250V (AC); Manufacturer Part Number: 662104231724; Category: Wire-to-Board Connectors; Match Code: WR-MPC3; ComponentLink1Description: Website Link; ComponentLink1URL: https://www.we-online.com/redexpert/article/662104231724?ad; ComponentLink2Description: Datasheet Link; ComponentLink2URL: https://www.we-online.com/redexpert/spec/662104231724?ad; Mount: Surface Mount; Operating Temperature Max: 105°C; Operating Temperature Min: -40°C; Packaging: Tape and Reel; Gender: Male; Number of Pins: 4; Number of Rows: 2; Orientation: Right Angled; Pitch: 3mm
footprint 662104231724
pins: 1, 2, 3, 4

## 662104236022
designator P?  (value not drawn)
WR-MPC3 SMT Male Right Angled Header with Plastic Pegs, pitch 3mm, 4p; Manufacturer: Wurth Elektronik; Contact Resistance: 10mOhm; Insulation Resistance: >1000MOhm; Rated Current: 5A; Working Voltage: 250V (AC); Manufacturer Part Number: 662104236022; Category: Wire-to-Board Connectors; Match Code: WR-MPC3; ComponentLink1Description: Website Link; ComponentLink1URL: https://www.we-online.com/redexpert/article/662104236022?ad; ComponentLink2Description: Datasheet Link; ComponentLink2URL: https://www.we-online.com/redexpert/spec/662104236022?ad; Mount: Surface Mount; Operating Temperature Max: 105°C; Operating Temperature Min: -40°C; Packaging: Tape and Reel; Length: 9.7mm; Width: 9.9mm; Height: 8.76mm; Gender: Male; Number of Pins: 4; Number of Rows: 2; Orientation: Right Angled; Pitch: 3mm
footprint 662104236022
pins: 1, 2, 3, 4

## 662105130822
designator P?  (value not drawn)
WR-MPC3 SMT Male Right Angled Header with THT Retention Clip, pitch 3mm, 5p; Manufacturer: Wurth Elektronik; Contact Resistance: 10mOhm; Insulation Resistance: >1000MOhm; Rated Current: 5A; Working Voltage: 250V (AC); Manufacturer Part Number: 662105130822; Category: Wire-to-Board Connectors; Match Code: WR-MPC3; ComponentLink1Description: Website Link; ComponentLink1URL: https://www.we-online.com/redexpert/article/662105130822?ad; ComponentLink2Description: Datasheet Link; ComponentLink2URL: https://www.we-online.com/redexpert/spec/662105130822?ad; Mount: Surface Mount; Operating Temperature Max: 105°C; Operating Temperature Min: -40°C; Packaging: Tape and Reel; Length: 18.65mm; Width: 11.35mm; Height: 5.57mm; Gender: Male; Number of Pins: 5; Number of Rows: 1; Orientation: Right Angled; Pitch: 3mm
footprint 662105130822
pins: 1, 2, 3, 4, 5

## 662105136022
designator P?  (value not drawn)
WR-MPC3 SMT Male Right Angled Header with Snap-In Plastic Pegs, pitch 3mm, 5p; Manufacturer: Wurth Elektronik; Contact Resistance: 10mOhm; Insulation Resistance: >1000MOhm; Rated Current: 5A; Working Voltage: 250V (AC); Manufacturer Part Number: 662105136022; Category: Wire-to-Board Connectors; Match Code: WR-MPC3; ComponentLink1Description: Website Link; ComponentLink1URL: https://www.we-online.com/redexpert/article/662105136022?ad; ComponentLink2Description: Datasheet Link; ComponentLink2URL: https://www.we-online.com/redexpert/spec/662105136022?ad; Mount: Surface Mount; Operating Temperature Max: 105°C; Operating Temperature Min: -40°C; Packaging: Tape and Reel; Length: 18.65mm; Width: 11.35mm; Height: 5.57mm; Gender: Male; Number of Pins: 5; Number of Rows: 1; Orientation: Right Angled; Pitch: 3mm
footprint 662105136022
pins: 1, 2, 3, 4, 5

## 662105145021
designator P?  (value not drawn)
WR-MPC3 SMT Male Right Angled Header with SMT Solder Tabs, pitch 3mm, 5p; Manufacturer: Wurth Elektronik; Contact Resistance: 10mOhm; Insulation Resistance: >1000MOhm; Rated Current: 5A; Working Voltage: 250V (AC); Manufacturer Part Number: 662105145021; Category: Wire-to-Board Connectors; Match Code: WR-MPC3; ComponentLink1Description: Website Link; ComponentLink1URL: https://www.we-online.com/redexpert/article/662105145021?ad; ComponentLink2Description: Datasheet Link; ComponentLink2URL: https://www.we-online.com/redexpert/spec/662105145021?ad; Mount: Surface Mount; Operating Temperature Max: 105°C; Operating Temperature Min: -40°C; Packaging: Tape and Reel; Length: 18.65mm; Width: 11.35mm; Height: 5.57mm; Gender: Male; Number of Pins: 5; Number of Rows: 1; Orientation: Right Angled; Pitch: 3mm
footprint 662105145021
pins: 1, 2, 3, 4, 5

## 662106130822
designator P?  (value not drawn)
WR-MPC3 SMT Male Right Angled Header with THT Retention Clip, pitch 3mm, 6p; Manufacturer: Wurth Elektronik; Contact Resistance: 10mOhm; Insulation Resistance: >1000MOhm; Rated Current: 5A; Working Voltage: 250V (AC); Manufacturer Part Number: 662106130822; Category: Wire-to-Board Connectors; Match Code: WR-MPC3; ComponentLink1Description: Website Link; ComponentLink1URL: https://www.we-online.com/redexpert/article/662106130822?ad; ComponentLink2Description: Datasheet Link; ComponentLink2URL: https://www.we-online.com/redexpert/spec/662106130822?ad; Mount: Surface Mount; Operating Temperature Max: 105°C; Operating Temperature Min: -40°C; Packaging: Tape and Reel; Length: 21.65mm; Width: 11.35mm; Height: 5.57mm; Gender: Male; Number of Pins: 6; Number of Rows: 1; Orientation: Right Angled; Pitch: 3mm
footprint 662106130822
pins: 1, 2, 3, 4, 5, 6

## 662106136022
designator P?  (value not drawn)
WR-MPC3 SMT Male Right Angled Header with Snap-In Plastic Pegs, pitch 3mm, 6p; Manufacturer: Wurth Elektronik; Contact Resistance: 10mOhm; Insulation Resistance: >1000MOhm; Rated Current: 5A; Working Voltage: 250V (AC); Manufacturer Part Number: 662106136022; Category: Wire-to-Board Connectors; Match Code: WR-MPC3; ComponentLink1Description: Website Link; ComponentLink1URL: https://www.we-online.com/redexpert/article/662106136022?ad; ComponentLink2Description: Datasheet Link; ComponentLink2URL: https://www.we-online.com/redexpert/spec/662106136022?ad; Mount: Surface Mount; Operating Temperature Max: 105°C; Operating Temperature Min: -40°C; Packaging: Tape and Reel; Length: 21.65mm; Width: 11.35mm; Height: 5.57mm; Gender: Male; Number of Pins: 6; Number of Rows: 1; Orientation: Right Angled; Pitch: 3mm
footprint 662106136022
pins: 1, 2, 3, 4, 5, 6

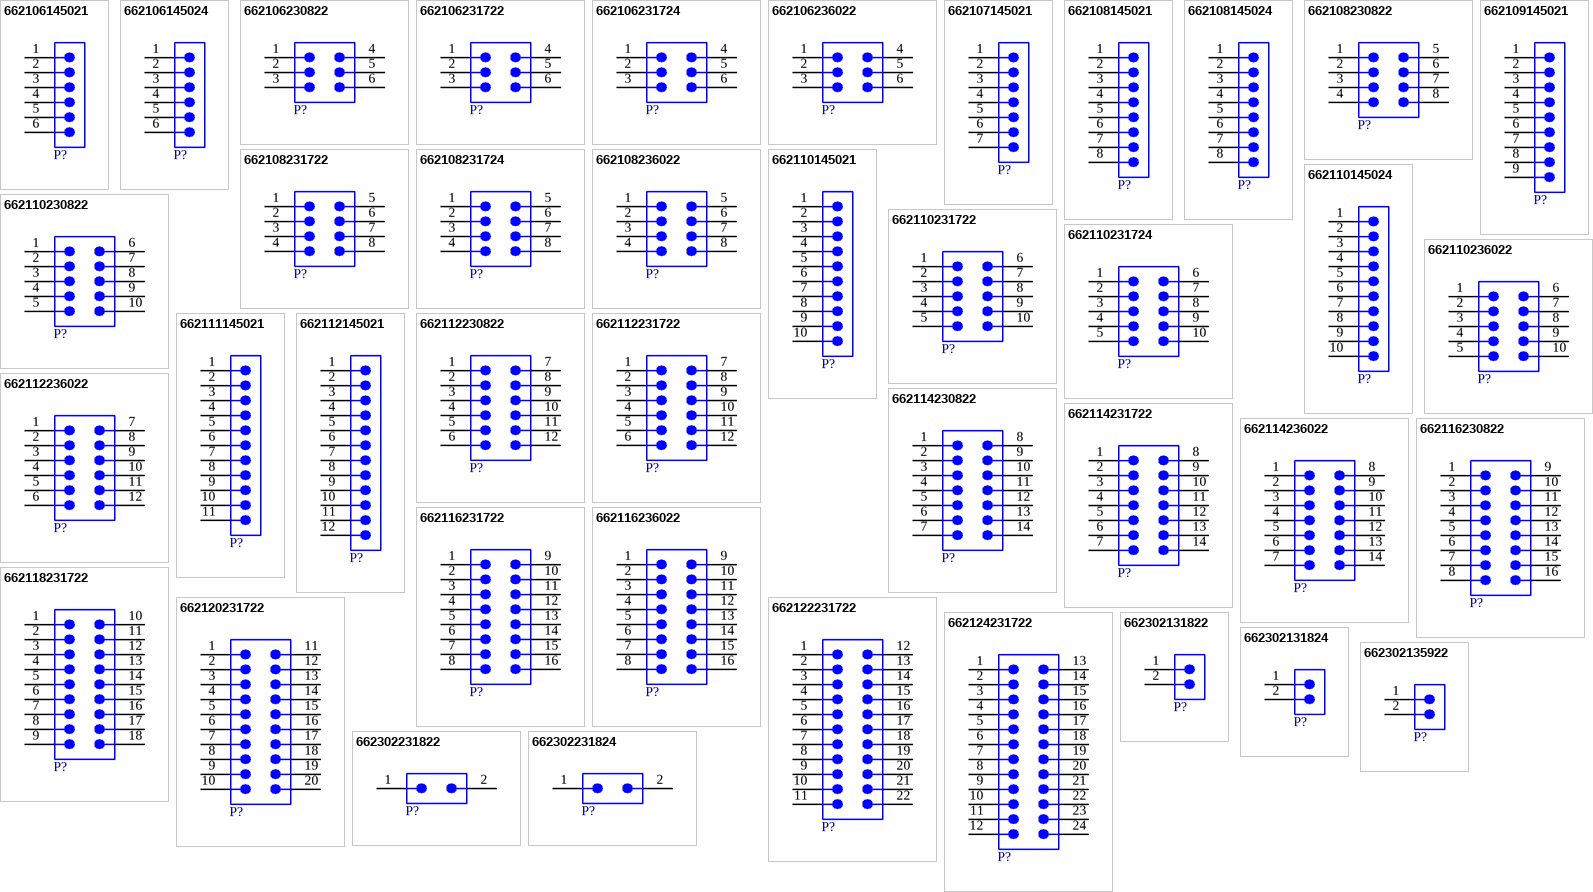
[diagram p4: symbols 662106145021 to 662302231824]

## 662106145021
designator P?  (value not drawn)
WR-MPC3 SMT Male Right Angled Header with SMT Solder Tabs, pitch 3mm, 6p; Manufacturer: Wurth Elektronik; Contact Resistance: 10mOhm; Insulation Resistance: >1000MOhm; Rated Current: 5A; Working Voltage: 250V (AC); Manufacturer Part Number: 662106145021; Category: Wire-to-Board Connectors; Match Code: WR-MPC3; ComponentLink1Description: Website Link; ComponentLink1URL: https://www.we-online.com/redexpert/article/662106145021?ad; ComponentLink2Description: Datasheet Link; ComponentLink2URL: https://www.we-online.com/redexpert/spec/662106145021?ad; Mount: Surface Mount; Operating Temperature Max: 105°C; Operating Temperature Min: -40°C; Packaging: Tape and Reel; Length: 21.65mm; Width: 11.35mm; Height: 5.57mm; Gender: Male; Number of Pins: 6; Number of Rows: 1; Orientation: Right Angled; Pitch: 3mm
footprint 662106145021
pins: 1, 2, 3, 4, 5, 6

## 662106145024
designator P?  (value not drawn)
WR-MPC3 SMT Male Header Single Row Right Angled with SMT Solder Tabs (Selective Gold), pitch 3mm, 6p; Manufacturer: Wurth Elektronik; Contact Resistance: 10mOhm; Insulation Resistance: >1000MOhm; Rated Current: 5A; Working Voltage: 250V (AC); Manufacturer Part Number: 662106145024; Category: Wire-to-Board Connectors; Match Code: WR-MPC3; ComponentLink1Description: Website Link; ComponentLink1URL: https://www.we-online.com/redexpert/article/662106145024?ad; ComponentLink2Description: Datasheet Link; ComponentLink2URL: https://www.we-online.com/redexpert/spec/662106145024?ad; Mount: Surface Mount; Operating Temperature Max: 105°C; Operating Temperature Min: -40°C; Packaging: Tape and Reel; Gender: Male; Number of Pins: 6; Number of Rows: 1; Orientation: Right Angled; Pitch: 3mm
footprint 662106145024
pins: 1, 2, 3, 4, 5, 6

## 662106230822
designator P?  (value not drawn)
WR-MPC3 SMT Male Right Angled Header with THT Retention Clip, pitch 3mm, 6p; Manufacturer: Wurth Elektronik; Contact Resistance: 10mOhm; Insulation Resistance: >1000MOhm; Rated Current: 5A; Working Voltage: 250V (AC); Manufacturer Part Number: 662106230822; Category: Wire-to-Board Connectors; Match Code: WR-MPC3; ComponentLink1Description: Website Link; ComponentLink1URL: https://www.we-online.com/redexpert/article/662106230822?ad; ComponentLink2Description: Datasheet Link; ComponentLink2URL: https://www.we-online.com/redexpert/spec/662106230822?ad; Mount: Surface Mount; Operating Temperature Max: 105°C; Operating Temperature Min: -40°C; Packaging: Tape and Reel; Length: 12.7mm; Width: 15.9mm; Height: 8.76mm; Gender: Male; Number of Pins: 6; Number of Rows: 2; Orientation: Right Angled; Pitch: 3mm
footprint 662106230822
pins: 1, 2, 3, 4, 5, 6

## 662106231722
designator P?  (value not drawn)
WR-MPC3 SMT Male Right Angled Header with SMT Solder Tab, pitch 3mm, 6p; Manufacturer: Wurth Elektronik; Contact Resistance: 10mOhm; Insulation Resistance: >1000MOhm; Rated Current: 5A; Working Voltage: 250V (AC); Manufacturer Part Number: 662106231722; Category: Wire-to-Board Connectors; Match Code: WR-MPC3; ComponentLink1Description: Website Link; ComponentLink1URL: https://www.we-online.com/redexpert/article/662106231722?ad; ComponentLink2Description: Datasheet Link; ComponentLink2URL: https://www.we-online.com/redexpert/spec/662106231722?ad; Mount: Surface Mount; Operating Temperature Max: 105°C; Operating Temperature Min: -40°C; Packaging: Tape and Reel; Length: 12.7mm; Width: 9.9mm; Height: 8.76mm; Gender: Male; Number of Pins: 6; Number of Rows: 2; Orientation: Right Angled; Pitch: 3mm
footprint 662106231722
pins: 1, 2, 3, 4, 5, 6

## 662106231724
designator P?  (value not drawn)
WR-MPC3 SMT Male Header Dual Row Right Angled with SMT Solder Tabs (Selective Gold), pitch 3mm, 6p; Manufacturer: Wurth Elektronik; Contact Resistance: 10mOhm; Insulation Resistance: >1000MOhm; Rated Current: 5A; Working Voltage: 250V (AC); Manufacturer Part Number: 662106231724; Category: Wire-to-Board Connectors; Match Code: WR-MPC3; ComponentLink1Description: Website Link; ComponentLink1URL: https://www.we-online.com/redexpert/article/662106231724?ad; ComponentLink2Description: Datasheet Link; ComponentLink2URL: https://www.we-online.com/redexpert/spec/662106231724?ad; Mount: Surface Mount; Operating Temperature Max: 105°C; Operating Temperature Min: -40°C; Packaging: Tape and Reel; Gender: Male; Number of Pins: 6; Number of Rows: 2; Orientation: Right Angled; Pitch: 3mm
footprint 662106231724
pins: 1, 2, 3, 4, 5, 6

## 662106236022
designator P?  (value not drawn)
WR-MPC3 SMT Male Right Angled Header with Plastic Pegs, pitch 3mm, 6p; Manufacturer: Wurth Elektronik; Contact Resistance: 10mOhm; Insulation Resistance: >1000MOhm; Rated Current: 5A; Working Voltage: 250V (AC); Manufacturer Part Number: 662106236022; Category: Wire-to-Board Connectors; Match Code: WR-MPC3; ComponentLink1Description: Website Link; ComponentLink1URL: https://www.we-online.com/redexpert/article/662106236022?ad; ComponentLink2Description: Datasheet Link; ComponentLink2URL: https://www.we-online.com/redexpert/spec/662106236022?ad; Mount: Surface Mount; Operating Temperature Max: 105°C; Operating Temperature Min: -40°C; Packaging: Tape and Reel; Length: 12.7mm; Width: 9.9mm; Height: 8.76mm; Gender: Male; Number of Pins: 6; Number of Rows: 2; Orientation: Right Angled; Pitch: 3mm
footprint 662106236022
pins: 1, 2, 3, 4, 5, 6